# Altium schematic symbol library Mechanical.SchLib: 18 symbols
Pins are listed as number, name and electrical type; pins without a type are passive.

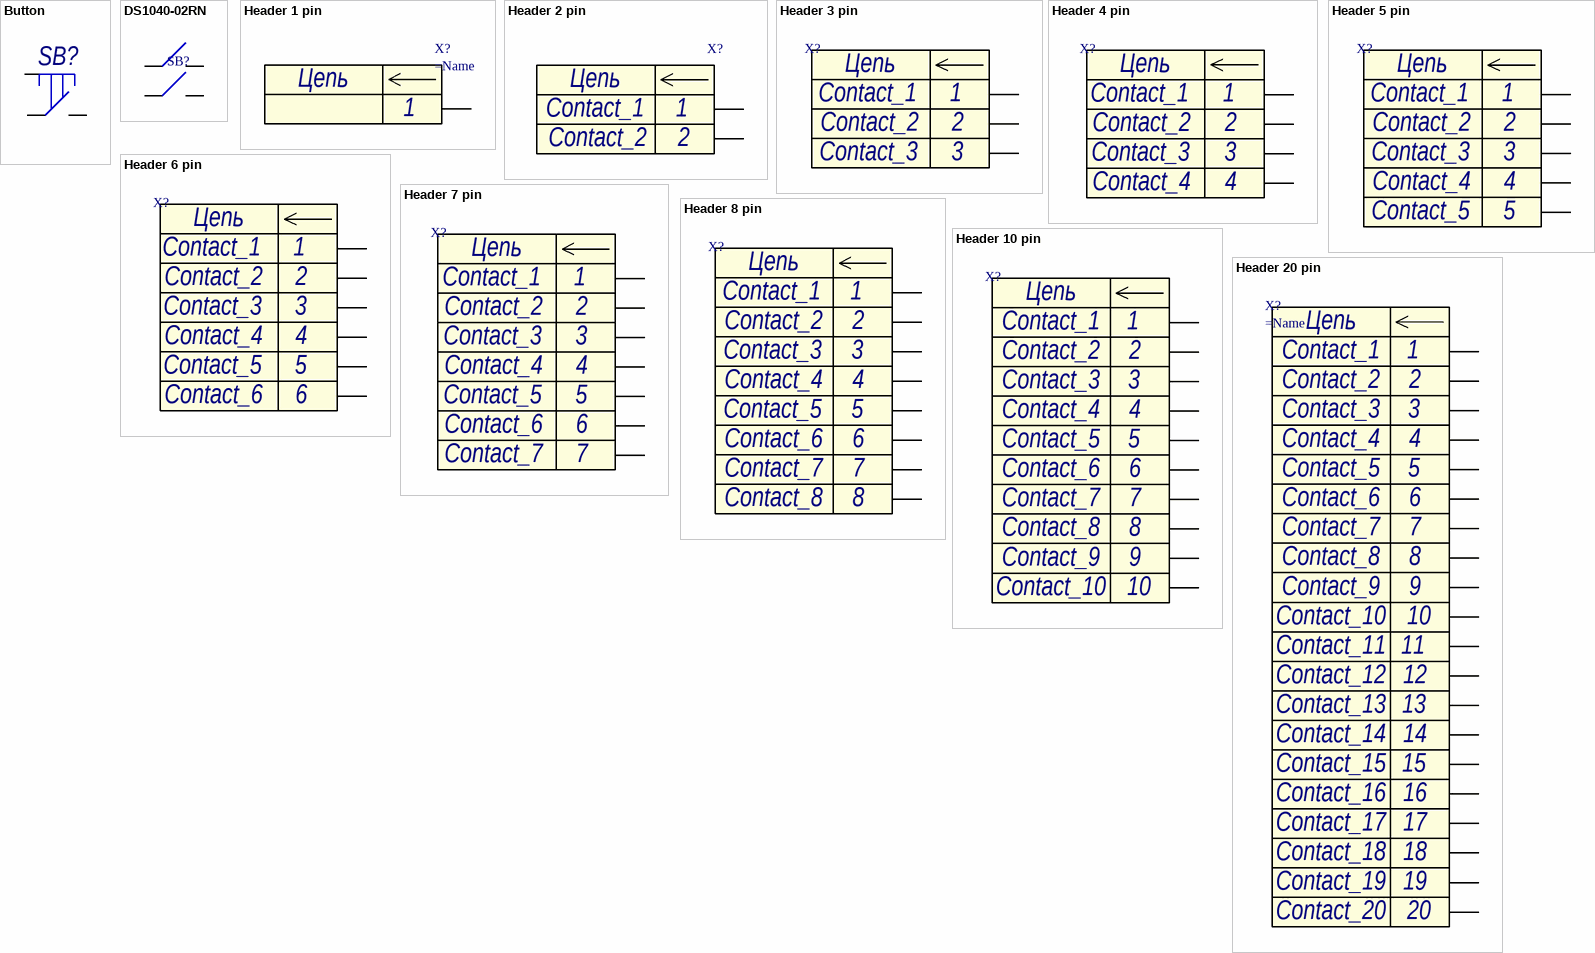
[diagram p0: symbols Button to Header 20 pin]

## Button
designator SB?
Normally open button
footprint 1-1437565-6 (Button)
footprint 1-1437565-6 WITH LABEL (Button, with label on top overlay)
pins: 1, 2, 3 GND

## DS1040-02RN
designator SB?
DIP double switch
footprint Dip switcher 2 pin
pins: 1, 2 1, 3 2, 4 2

## Header 1 pin
designator X?
Header 1 pin
footprint Pad
footprint PAD 2x4
footprint PAD 1.5x2.5
pins: 1
text: Цепь

## Header 2 pin
designator X?
Header 2 pin; Contact_1: Contact_1; Contact_2: Contact_2
footprint PLS-2
footprint CLICK-MATE 2
footprint CLICK-MATE 2 RA
footprint PicoBlade 2
footprint MICROFIT 2
footprint PicoBlade 2 RA
footprint Pads for inductor
footprint MICROFIT 2 SMD
footprint 2 pad 2mm pitch
footprint Molex 532610271 Header
footprint Molex 436500212 Header
footprint KLS2-301-5.00 (Terminal block connector, 2 leads, 5mm pitch)
footprint PCB WITH TYPE C PD TRIGGER
footprint KLS2-301-5.00 WITH LABEL (Terminal block connector, 2 leads, 5mm pitch, with label on overlay)
footprint 18650 PADs
pins: 1, 2
text: Цепь

## Header 3 pin
designator X?
Header 3 pin; Contact_1: Contact_1; Contact_2: Contact_2; Contact_3: Contact_3
footprint CLICK-MATE 3 (5054050370)
footprint PLS-3
footprint PicoBlade 3
footprint MICROFIT 3
footprint Molex 436500312 Header
pins: 1, 2, 3
text: Цепь

## Header 4 pin
designator X?
Header 4 pin; Contact_1: Contact_1; Contact_2: Contact_2; Contact_3: Contact_3; Contact_4: Contact_4
footprint CLICK-MATE 4 (5054050470)
footprint CLICK-MATE 4 RA
footprint PLS-4
footprint PicoBlade 4
footprint MICROFIT 4
footprint MICROFIT 4 RA
footprint PicoBlade 4 RA
pins: 1, 2, 3, 4
text: Цепь

## Header 5 pin
designator X?
Header 5 pin; Contact_1: Contact_1; Contact_2: Contact_2; Contact_3: Contact_3; Contact_4: Contact_4; Contact_5: Contact_5
footprint CLICK-MATE 5
footprint PLS-5
footprint PicoBlade 5
footprint 6376042-2
footprint 1473971-2
footprint 6376042-2_standard
footprint MOLEX 532610571 Header
footprint 5 PADSx2.54 WITH LABEL (5 smd PADS with lables on overlay)
pins: 1, 2, 3, 4, 5
text: Цепь

## Header 6 pin
designator X?
Header 6 pin; Contact_1: Contact_1; Contact_2: Contact_2; Contact_3: Contact_3; Contact_4: Contact_4; Contact_5: Contact_5; Contact_6: Contact_6
footprint CLICK-MATE 6 (5054050670)
footprint CLICK-MATE 6 RA
footprint PLS-6
footprint PicoBlade 6
footprint Molex 532610671 Header
pins: 1, 2, 3, 4, 5, 6
text: Цепь

## Header 7 pin
designator X?
Header 7 pin; Contact_1: Contact_1; Contact_2: Contact_2; Contact_3: Contact_3; Contact_4: Contact_4; Contact_5: Contact_5; Contact_6: Contact_6; Contact_7: Contact_7
footprint CLICK-MATE 7 (505405-0770)
footprint CLICK-MATE 7 RA
footprint PLS-7
footprint PicoBlade 7
footprint Molex 532610771
pins: 1, 2, 3, 4, 5, 6, 7
text: Цепь

## Header 8 pin
designator X?
Header 8 pin; Contact_1: Contact_1; Contact_2: Contact_2; Contact_3: Contact_3; Contact_4: Contact_4; Contact_5: Contact_5; Contact_6: Contact_6; Contact_7: Contact_7; Contact_8: Contact_8
footprint CLICK-MATE 8 (5054050870)
footprint CLICK-MATE 8 RA
footprint PLS-8
footprint MicroFit 8
pins: 1, 2, 3, 4, 5, 6, 7, 8
text: Цепь

## Header 10 pin
designator X?
Header 10 pin; Contact_1: Contact_1; Contact_2: Contact_2; Contact_3: Contact_3; Contact_4: Contact_4; Contact_5: Contact_5; Contact_6: Contact_6; Contact_7: Contact_7; Contact_8: Contact_8; Contact_9: Contact_9; Contact_10: Contact_10
footprint CLICK-MATE 10 (505405-1070)
footprint CLICK-MATE 10 RA (5025851070)
footprint PLS-10 (PLS-40 10 pin header)
pins: 1, 2, 3, 4, 5, 6, 7, 8, 9, 10
text: Цепь

## Header 20 pin
designator X?
Header 20 pin; Contact_1: Contact_1; Contact_2: Contact_2; Contact_3: Contact_3; Contact_4: Contact_4; Contact_5: Contact_5; Contact_6: Contact_6; Contact_7: Contact_7; Contact_8: Contact_8; Contact_9: Contact_9; Contact_10: Contact_10; Contact_11: Contact_11; Contact_12: Contact_12; Contact_13: Contact_13; Contact_14: Contact_14; Contact_15: Contact_15; Contact_16: Contact_16; Contact_17: Contact_17; Contact_18: Contact_18; Contact_19: Contact_19; Contact_20: Contact_20
footprint PBS-20
footprint FFC2A32-20-T (Разъём для FFC шлейфа 20 pin)
pins: 1, 2, 3, 4, 5, 6, 7, 8, 9, 10, 11, 12, 13, 14, 15, 16, 17, 18, 19, 20
text: Цепь

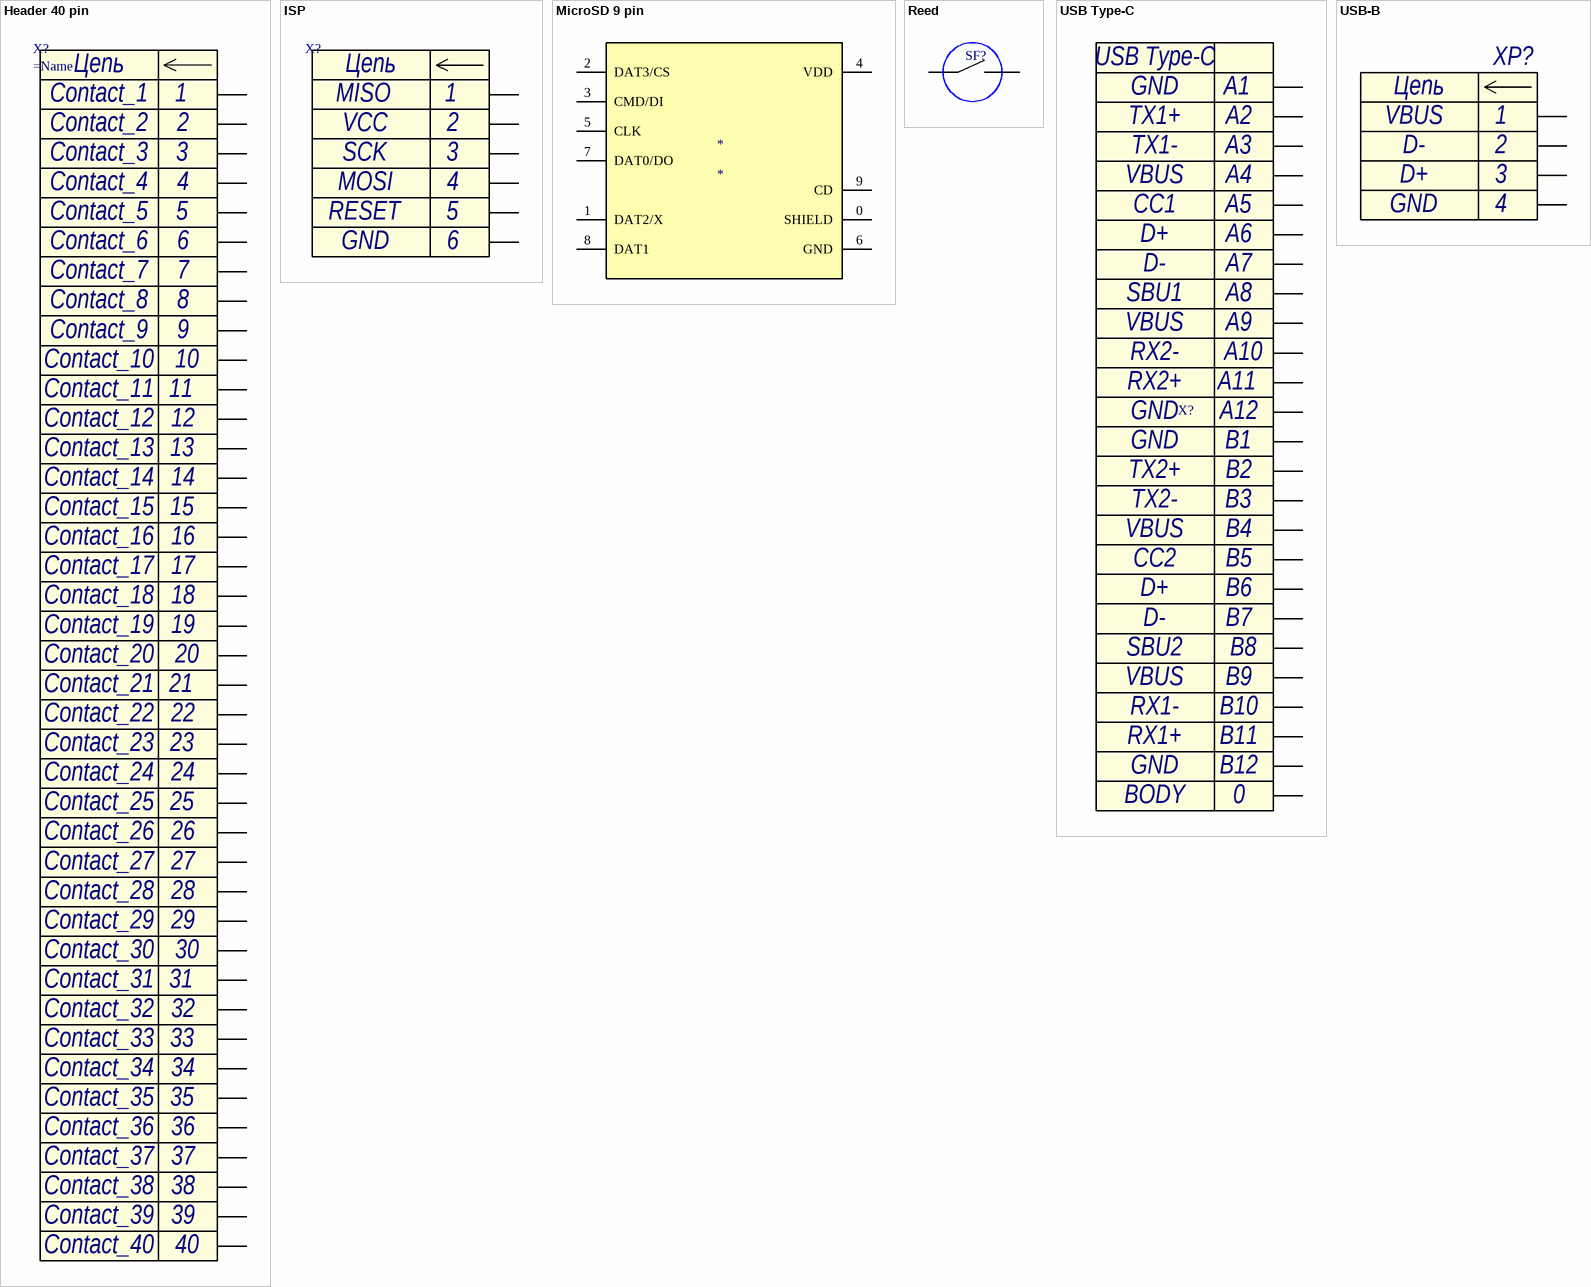
[diagram p1: symbols Header 40 pin to USB-B]

## Header 40 pin
designator X?
Header 40 pin; Contact_1: Contact_1; Contact_2: Contact_2; Contact_3: Contact_3; Contact_4: Contact_4; Contact_5: Contact_5; Contact_6: Contact_6; Contact_7: Contact_7; Contact_8: Contact_8; Contact_9: Contact_9; Contact_10: Contact_10; Contact_11: Contact_11; Contact_12: Contact_12; Contact_13: Contact_13; Contact_14: Contact_14; Contact_15: Contact_15; Contact_16: Contact_16; Contact_17: Contact_17; Contact_18: Contact_18; Contact_19: Contact_19; Contact_20: Contact_20; Contact_21: Contact_21; Contact_22: Contact_22; Contact_23: Contact_23; Contact_24: Contact_24; Contact_25: Contact_25; Contact_26: Contact_26; Contact_27: Contact_27; Contact_28: Contact_28; Contact_29: Contact_29; Contact_30: Contact_30; Contact_31: Contact_31; Contact_32: Contact_32; Contact_33: Contact_33; Contact_34: Contact_34; Contact_35: Contact_35; Contact_36: Contact_36; Contact_37: Contact_37; Contact_38: Contact_38; Contact_39: Contact_39; Contact_40: Contact_40
footprint PBS-40
pins: 1, 2, 3, 4, 5, 6, 7, 8, 9, 10, 11 1, 12, 13, 14, 15, 16, 17, 18, 19, 20, 21, 22, 23, 24, 25, 26, 27, 28, 29, 30, 31, 32, 33, 34, 35, 36, 37, 38, 39, 40
text: Цепь

## ISP
designator X?  (value not drawn)
ISP header
footprint ISP_2.54p_testpoints
pins: 1, 2, 3, 4, 5, 6
text: Цепь; MISO; VCC; SCK; MOSI; RESET; GND

## MicroSD 9 pin
designator *
MicroSD 9 pin socket
footprint MicroSD 9 pin
pins: 0 SHIELD, 1 DAT2/X, 2 DAT3/CS, 3 CMD/DI, 4 VDD, 5 CLK, 6 GND, 7 DAT0/DO, 8 DAT1, 9 CD

## Reed
designator SF?  (value not drawn)
Reed
footprint Reed (КЭМ-2)
pins: 1, 2

## USB Type-C
designator X?  (value not drawn)
USB Type-C connector
footprint USB Type-C Vertical (Китайский ноунейм https://aliexpress.ru/item/1005003262313119.html?spm=a2g2w.orderdetail.0.0.74054aa6RzrE6F&sku_id=12000024910541225)
footprint USB Type-C Vertical Universal
footprint USB-C31-S-VT-CS4-BK-PP-T/R (Vertical USB Type-C)
pins: 0, A1, A2, A3, A4, A5, A6, A7, A8, A9, A10, A11, A12, B1, B2, B3, B4, B5, B6, B7, B8, B9, B10, B11, B12
text: GND; TX1+; TX1-; VBUS; CC1; D+; D-; SBU1; RX2-; RX2+; TX2+; TX2-; CC2; SBU2; RX1-; RX1+; BODY

## USB-B
designator XP?, comment USBB-J1  (value not drawn)
USB-B connectror; Manufacturer: Confly electronics; Contact_1: VBUS; Contact_2: D-; Contact_3: D+; Contact_4: GND; Name: USBB-J1
footprint USB-B
pins: 1, 2, 3, 4
text: Цепь